# EAGLE library part MC_0,5/8-G-2,54 (library isystems)
Phoenix Contact MICRO COMBICON Raster 2,54 6A Max
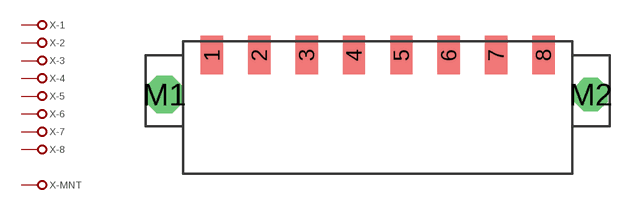
[diagram p7: symbol with the pads of MC_0,5/8-G-2,54_SMD_R24; footprint MC_0,5/8-G-2,54_SMD_R24]

Designator prefix X; gates -1=CONX1 -2=CONX1 -3=CONX1 -4=CONX1 -5=CONX1 -6=CONX1 -7=CONX1 -8=CONX1 -MNT=CONX1

## MC_0,5/8-G-2,54_SMD_R24  [MC_0,5/8-G-2,54_SMD_R24]
1  -1:P
2  -2:P
3  -3:P
4  -4:P
5  -5:P
6  -6:P
7  -7:P
8  -8:P
M1  -MNT:P
M2  -MNT:P

## Footprint MC_0,5/8-G-2,54_SMD_R24 (pad centres in mm)
smd 1.2 x 2.06: 1 -8.89,0; 2 -6.35,0; 3 -3.81,0; 4 -1.27,0; 5 1.27,0; 6 3.81,0; 7 6.35,0; 8 8.89,0
drill 1.2 pad 2 octagon: M1 -11.43,-2.11
drill 1.2 octagon: M2 11.43,-2.11